# EAGLE library part GRPB192VWQP (library con-sullins-grpb)
HEADER
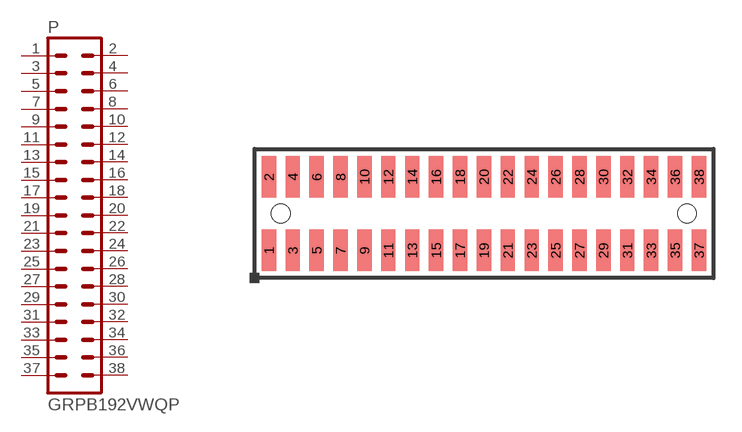
[diagram p16: symbol with the pads of GRPB192VWQP; footprint GRPB192VWQP]

Designator prefix P

## GRPB192VWQP  [GRPB192VWQP]
1  1  pas
2  2  pas
3  3  pas
4  4  pas
5  5  pas
6  6  pas
7  7  pas
8  8  pas
9  9  pas
10  10  pas
11  11  pas
12  12  pas
13  13  pas
14  14  pas
15  15  pas
16  16  pas
17  17  pas
18  18  pas
19  19  pas
20  20  pas
21  21  pas
22  22  pas
23  23  pas
24  24  pas
25  25  pas
26  26  pas
27  27  pas
28  28  pas
29  29  pas
30  30  pas
31  31  pas
32  32  pas
33  33  pas
34  34  pas
35  35  pas
36  36  pas
37  37  pas
38  38  pas

## Footprint GRPB192VWQP (pad centres in mm)
HEADER
smd 0.762 x 2.21: 1 -11.43,-1.956; 2 -11.43,1.956; 3 -10.16,-1.956; 4 -10.16,1.956; 5 -8.89,-1.956; 6 -8.89,1.956; 7 -7.62,-1.956; 8 -7.62,1.956; 9 -6.35,-1.956; 10 -6.35,1.956; 11 -5.08,-1.956; 12 -5.08,1.956; 13 -3.81,-1.956; 14 -3.81,1.956; 15 -2.54,-1.956; 16 -2.54,1.956; 17 -1.27,-1.956; 18 -1.27,1.956; 19 0,-1.956; 20 0,1.956; 21 1.27,-1.956; 22 1.27,1.956; 23 2.54,-1.956; 24 2.54,1.956; 25 3.81,-1.956; 26 3.81,1.956; 27 5.08,-1.956; 28 5.08,1.956; 29 6.35,-1.956; 30 6.35,1.956; 31 7.62,-1.956; 32 7.62,1.956; 33 8.89,-1.956; 34 8.89,1.956; 35 10.16,-1.956; 36 10.16,1.956; 37 11.43,-1.956; 38 11.43,1.956
hole 1 at -10.795,0
hole 1 at 10.795,0